# Altium footprint library PcbLib1.PcbLib: 12 footprints
Each footprint in its own frame and in the unit in brackets; x right, y up, seen from the top. Pads: shape width x height; smd on the part's side, far side on the other; paste and mask are expansions set on the pad; w line width, h text height; cw(c..) or ccw(c..) is an arc to the next point about the centre after c.
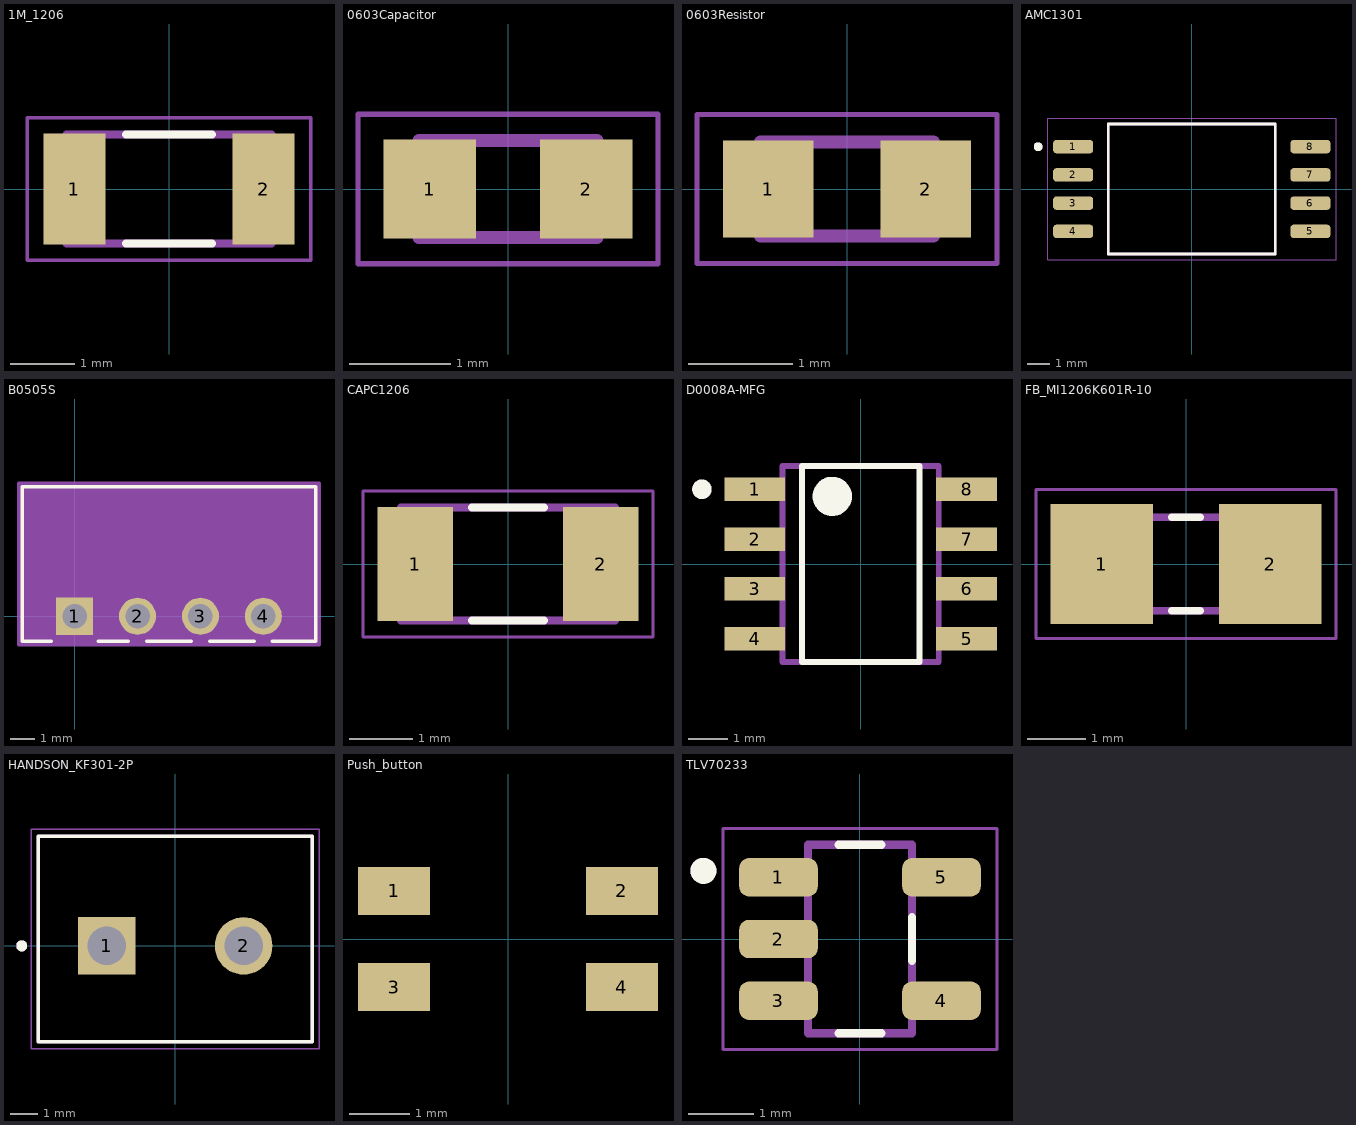
[diagram p0: the footprints below, top view; thin cyan lines are the x and y axes]

## 1M_1206 [mm]
pads (2):
  rect 0.97x1.73 smd paste+0 mask+0.102: 1(-1.48,0) 2(1.48,0)
Top Overlay:
  lines w0.127: -0.67,-0.85 0.67,-0.85 ; -0.67,0.85 0.67,0.85
Mechanical 13:
  lines w0.127: -1.6,-0.85 -1.6,0.85 1.6,0.85 1.6,-0.85 -1.6,-0.85
Mechanical 15:
  lines w0.05: -2.215,-1.115 -2.215,1.115 2.215,1.115 2.215,-1.115 -2.215,-1.115
3D body "step_temp.STEP": height 0.65, standoff 0, extent -1.55,-0.8 1.55,0.8

## 0603Capacitor [mm]
pads (2):
  rect 0.92x0.98 smd: 1(-0.775,0) 2(0.775,0)
Mechanical 13:
  lines w0.127: -0.88,-0.48 -0.88,0.48 0.88,0.48 0.88,-0.48 -0.88,-0.48
Mechanical 15:
  lines w0.05: -1.485,-0.74 -1.485,0.74 1.485,0.74 1.485,-0.74 -1.485,-0.74
3D body "step_temp.STEP": height 0.9, standoff 0, extent -0.8,-0.405 0.8,0.405

## 0603Resistor [mm]
pads (2):
  rect 0.87x0.93 smd: 1(-0.755,0) 2(0.755,0)
Mechanical 13:
  lines w0.127: -0.83,-0.45 0.83,-0.45 0.83,0.45 -0.83,0.45 -0.83,-0.45
Mechanical 15:
  lines w0.05: -1.44,-0.715 1.44,-0.715 1.44,0.715 -1.44,0.715 -1.44,-0.715
3D body "step_temp.STEP": height 0.6, standoff 0, extent -0.775,-0.4 0.775,0.4

## AMC1301 [mm]
pads (8):
  rrect50% 1.8x0.6 smd: 1(-5.33,1.905) 2(-5.33,0.635) 3(-5.33,-0.635) 4(-5.33,-1.905) 5(5.33,-1.905) 6(5.33,-0.635) 7(5.33,0.635) 8(5.33,1.905)
Top Overlay:
  circle w0.2: c-6.9,1.9 r0.1
  lines w0.127: -3.75,-2.925 -3.75,2.925 3.75,2.925 3.75,-2.925 -3.75,-2.925
Mechanical 13:
  circle w0.2: c-6.9,1.9 r0.1
  lines w0.127: -3.75,-2.925 -3.75,2.925 3.75,2.925 3.75,-2.925 -3.75,-2.925
Mechanical 15:
  lines w0.05: -6.48,-3.175 -6.48,3.175 6.48,3.175 6.48,-3.175 -6.48,-3.175
3D body "step_temp.STEP": height 2.8, standoff 0, extent -5.75,-2.925 5.75,2.925

## B0505S [mil]
pads (4):
  rect 59x59 hole 39 paste-99999 mask+0: 1(0,0)
  round 59 hole 39 paste-99999 mask+0: 2(100,0) 3(200,0) 4(300,0)
Top Overlay:
  lines w6: -37.33,-40 -83.5,-40 -83.5,206 383.5,206 383.5,-40 314.65,-40 ; 37.33,-40 85.35,-40 ; 114.65,-40 185.35,-40 ; 214.65,-40 285.35,-40
Mechanical 13:
  lines w1: -78.5,-35 378.5,-35 378.5,201 -78.5,201 -78.5,-35
Mechanical 15:
  region: 388.5,-45 -88.5,-45 -88.5,211 388.5,211
  lines w6: -88.5,-45 -88.5,211 388.5,211 388.5,-45 -88.5,-45
3D body "SIP4_B_S-1WR3_MNS.step": height 400, standoff -215.98, extent -78.5,-35 378.5,200.98

## CAPC1206 [mm]
pads (2):
  rect 1.2x1.82 smd paste+0 mask+0.102: 1(-1.475,0) 2(1.475,0)
Top Overlay:
  lines w0.127: -0.57,-0.9 0.57,-0.9 ; -0.57,0.9 0.57,0.9
Mechanical 13:
  lines w0.127: -1.7,-0.9 -1.7,0.9 1.7,0.9 1.7,-0.9 -1.7,-0.9
Mechanical 15:
  lines w0.05: -2.308,-1.158 -2.308,1.158 2.308,1.158 2.308,-1.158 -2.308,-1.158
3D body "step_temp.STEP": height 1.75, standoff 0, extent -1.6,-0.8 1.6,0.8

## D0008A-MFG [mm]
pads (8):
  rect 1.55x0.6 smd paste+0 mask+0: 1(-2.7,1.905) 2(-2.7,0.635) 3(-2.7,-0.635) 4(-2.7,-1.905) 5(2.7,-1.905) 6(2.7,-0.635) 7(2.7,0.635) 8(2.7,1.905)
Top Overlay:
  circle w0.25: c-4.05,1.905 r0.125
  circle w0.5: c-0.725,1.725 r0.25
  lines w0.15: -1.5,-2.5 1.5,-2.5 1.5,2.5 -1.5,2.5 -1.5,-2.5
  text ".Designator" at -1.333,-3.175 h0.25
Mechanical 13:
  lines w0.15: -1.99,-2.5 1.99,-2.5 1.99,2.5 -1.99,2.5 -1.99,-2.5
  text ".Designator" at -1.333,-3.175 h0.25

## FB_MI1206K601R-10 [mm]
height 1.3
pads (2):
  rect 1.76x2.06 smd: 1(-1.445,0) 2(1.445,0)
Top Overlay:
  lines w0.127: -0.245,-0.8 0.245,-0.8 ; -0.245,0.8 0.245,0.8
Mechanical 13:
  lines w0.127: -1.6,-0.8 -1.6,0.8 1.6,0.8 1.6,-0.8 -1.6,-0.8
Mechanical 15:
  lines w0.05: -2.575,-1.28 -2.575,1.28 2.575,1.28 2.575,-1.28 -2.575,-1.28
3D body "step_temp.STEP": height 1.3, standoff 0, extent -1.6,-0.8 1.6,0.8

## HANDSON_KF301-2P [mm]
height 10
pads (2):
  rect 2.1x2.1 / inner round 2.1 / far side rect 2.1x2.1 hole 1.4: 1(-2.5,0)
  round 2.1 hole 1.4: 2(2.5,0)
Top Overlay:
  circle w0.2: c-5.6,0 r0.1
  lines w0.127: -5,-3.5 -5,4 5,4 5,-3.5 -5,-3.5
Mechanical 13:
  circle w0.2: c-5.6,0 r0.1
  lines w0.127: -5,-3.5 5,-3.5 5,4 -5,4 -5,-3.5
Mechanical 15:
  lines w0.05: -5.25,-3.75 5.25,-3.75 5.25,4.25 -5.25,4.25 -5.25,-3.75
3D body "step_temp.STEP": height 10, standoff -4.5, extent -5.6,-3.75 5,3.75

## PCBComponent_1 [mm]

## Push_button [mm]
pads (4):
  rect 1.2x0.8 smd paste+0 mask+0.102: 1(-1.9,0.8) 2(1.9,0.8) 3(-1.9,-0.8) 4(1.9,-0.8)

## TLV70233 [mm]
pads (5):
  rrect50% 1.21x0.59 smd: 1(-1.255,0.95) 2(-1.255,0) 3(-1.255,-0.95) 4(1.255,-0.95) 5(1.255,0.95)
Top Overlay:
  circle w0.2: c-2.41,1.05 r0.1
  lines w0.127: -0.33,-1.45 0.33,-1.45 ; -0.33,1.45 0.33,1.45 ; 0.8,-0.335 0.8,0.335
Mechanical 13:
  circle w0.2: c-2.41,1.05 r0.1
  lines w0.127: -0.8,-1.45 0.8,-1.45 0.8,1.45 -0.8,1.45 -0.8,-1.45
Mechanical 15:
  lines w0.05: -2.11,-1.7 -2.11,1.7 2.11,1.7 2.11,-1.7 -2.11,-1.7
3D body "step_temp.STEP": height 1.45, standoff 0, extent -1.4,-1.45 1.4,1.45